# EAGLE library part POLOLU_VNH5019_CARRIER_INPUT_ONLY (library will)
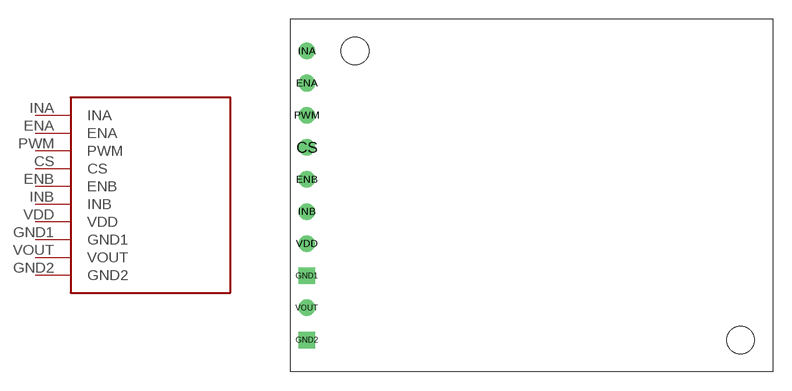
[diagram p4: symbol with the pads of VNH5019_CARRIER_INPUT_ONLY; footprint VNH5019_CARRIER_INPUT_ONLY]

Designator prefix -

## POLOLU_VNH5019_CARRIER_INPUT_ONLY  [VNH5019_CARRIER_INPUT_ONLY]
CS  CS
ENA  ENA
ENB  ENB
GND1  GND1
GND2  GND2
INA  INA
INB  INB
PWM  PWM
VDD  VDD
VOUT  VOUT

## Footprint VNH5019_CARRIER_INPUT_ONLY (pad centres in mm)
drill 0.8: CS 1.27,17.78; ENA 1.27,22.86; ENB 1.27,15.24; INA 1.27,25.4; INB 1.27,12.7; PWM 1.27,20.32; VDD 1.27,10.16; VOUT 1.27,5.08
drill 0.8 square: GND1 1.27,7.62; GND2 1.27,2.54
hole 2.184 at 5.08,25.4
hole 2.184 at 35.56,2.54